# EAGLE library part TC2030-CTX (library mbed-HDK)
Tag-Connect In Circuit Programming & Debug Cable 6 Pin http://www.tag-connect.com
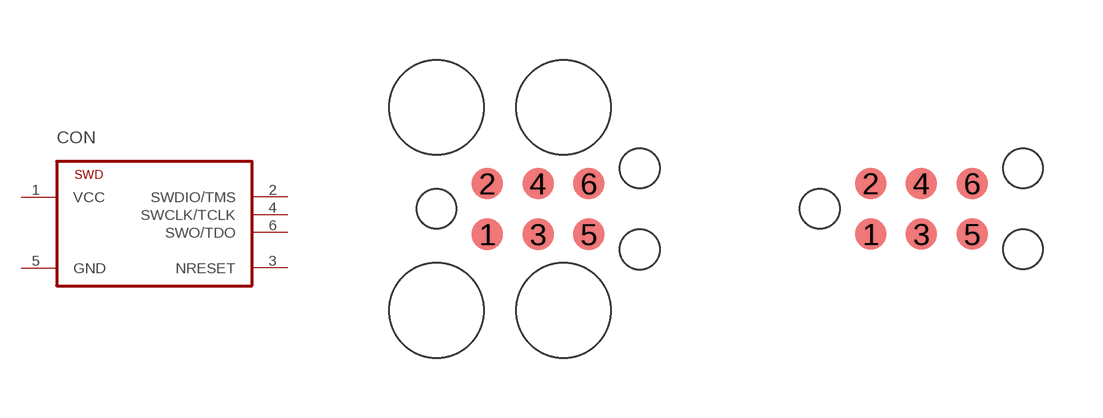
[diagram p31: symbol with the pads of TC2030-CTX; footprints TC2030-CTX, TC2030-CTX-NL]

Designator prefix CON

## TC2030-CTX  [TC2030-CTX]
1  VCC  pas
2  SWDIO/TMS  pas
3  NRESET  pas
4  SWCLK/TCLK  pas
5  GND  pas
6  SWO/TDO  pas

## TC2030-CTX-NL  [TC2030-CTX-NL]
Pads as for TC2030-CTX

## Footprint TC2030-CTX (pad centres in mm)
smd 0.787 x 0.787: 1 -1.27,-0.635; 2 -1.27,0.635; 3 0,-0.635; 4 0,0.635; 5 1.27,-0.635; 6 1.27,0.635
hole 0.991 at -2.54,0
hole 0.991 at 2.54,1.016
hole 0.991 at 2.54,-1.016
hole 2.375 at -2.54,2.54
hole 2.375 at -2.54,-2.54
hole 2.375 at 0.635,2.54
hole 2.375 at 0.635,-2.54

## Footprint TC2030-CTX-NL (pad centres in mm)
smd 0.787 x 0.787: 1 -1.27,-0.635; 2 -1.27,0.635; 3 0,-0.635; 4 0,0.635; 5 1.27,-0.635; 6 1.27,0.635
hole 0.991 at -2.54,0
hole 0.991 at 2.54,1.016
hole 0.991 at 2.54,-1.016